# Altium schematic symbol library Chips.SchLib: 170 symbols (part 1 of 2)
Pins are listed as number, name and electrical type; pins without a type are passive.

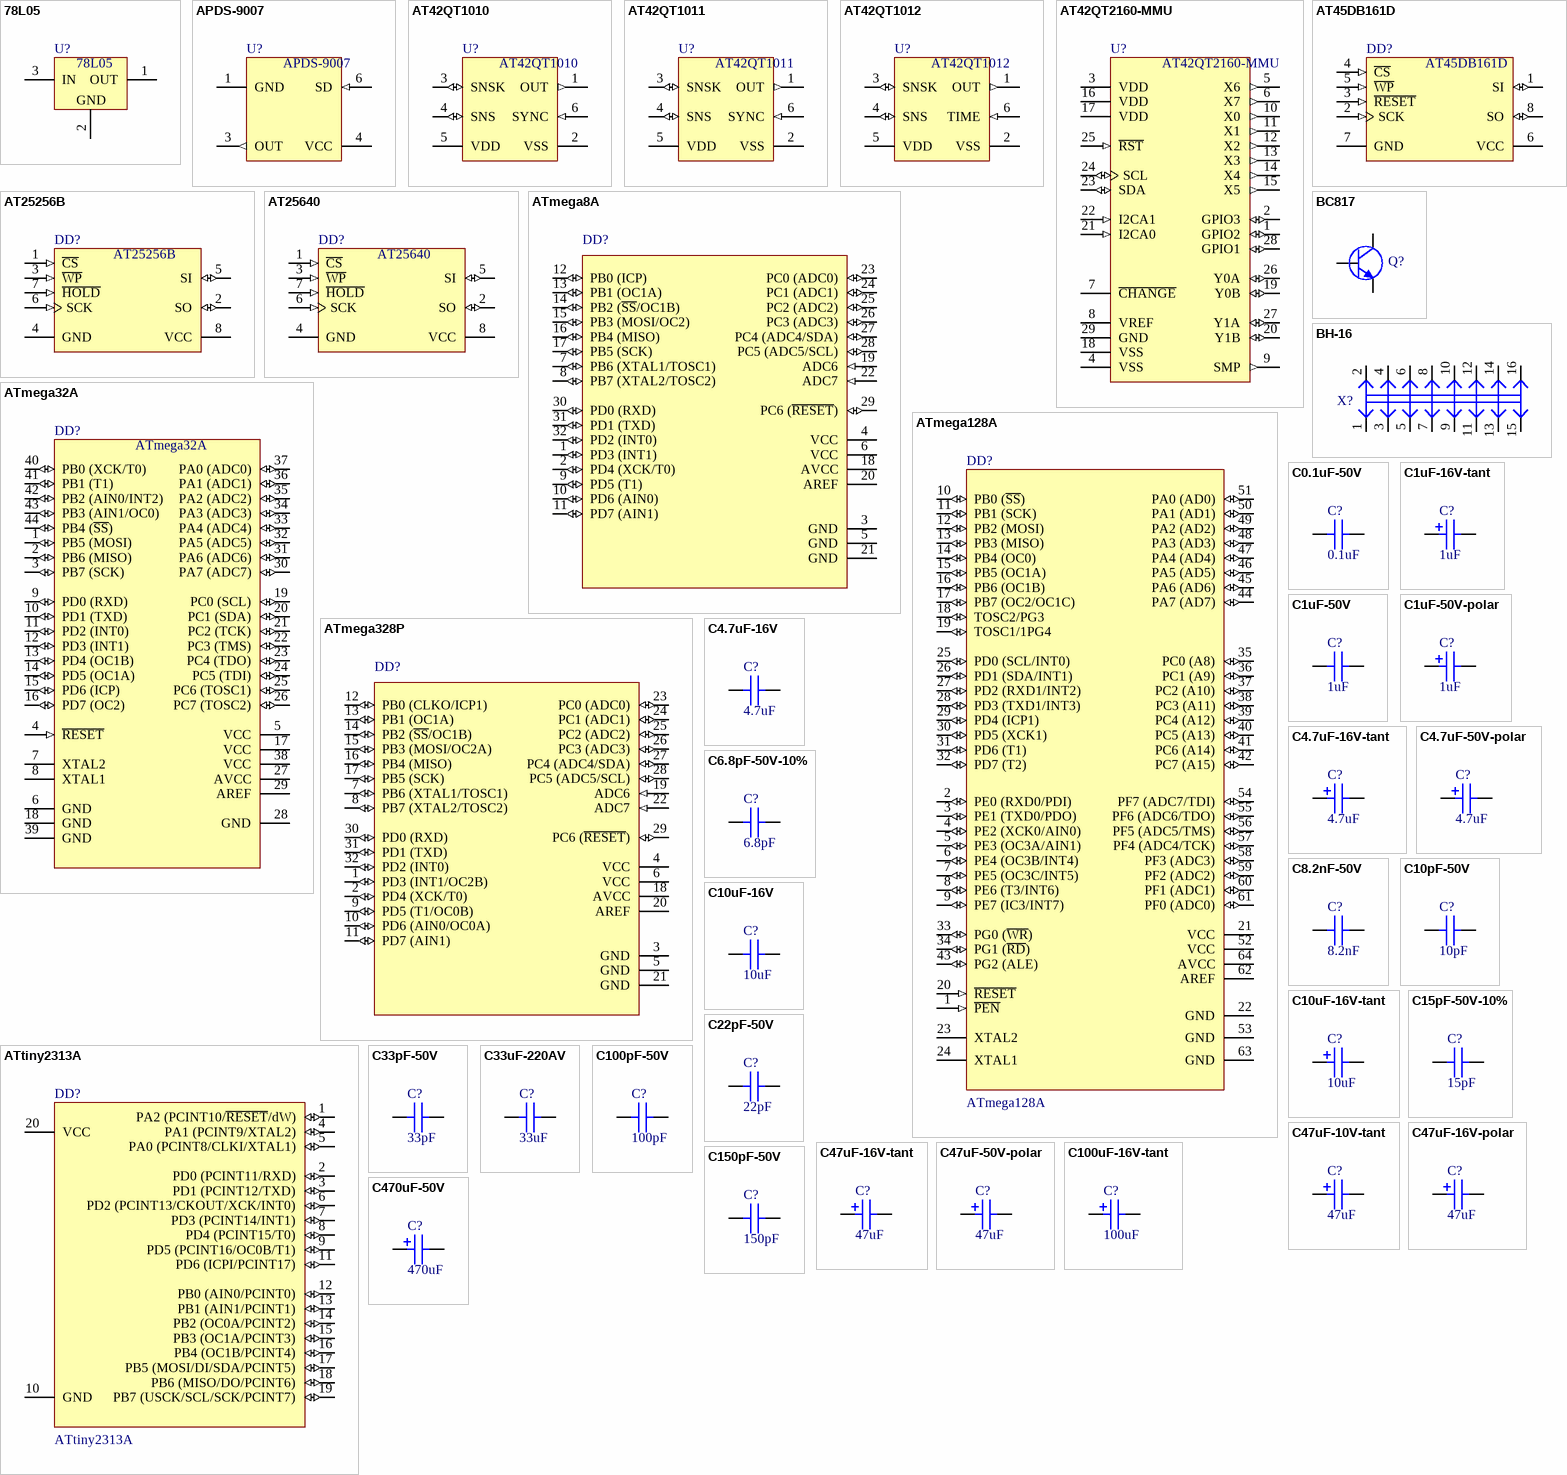
[diagram p0: symbols 78L05 to C470uF-50V]

## 78L05
designator U?
Positive Voltage Regulator; Value: 5V; Name: 78L05; Type: Стабилизатор
footprint TO92 (TO, Flat Index; 3 In-Line, Axial Leads; Body Dia. 4.8mm; Leads 0.51 x 0.51 mm (max))
pins: 1 OUT (power), 2 GND (power), 3 IN (power)

## APDS-9007
designator U?
Ambient Light Photo Sensor with Logarithmic Current Output; Name: APDS-9007; Type: Датчик освещения
footprint APDS-9007
footprint APDS-9007-HOLE (APDS-9007 throw hole)
pins: 1 GND (power), 3 OUT (out), 4 VCC (power), 6 SD (in)

## AT42QT1010
designator U?
One-channel Touch Sensor IC with Reset Timer, 6-pin SOT23; Name: AT42QT1010; Type: Драйвер сенсорной кнопки
footprint 6ST1_N (SOT23, 6-Leads, Body 2.9x1.6mm, Pitch 0.95mm, Lead Span 2.7mm, IPC Medium Density)
footprint 6ST1_L (SOT23, 6-Leads, Body 2.9x1.6mm, Pitch 0.95mm, Lead Span 2.7mm, IPC Medium Density)
pins: 1 OUT (out), 2 VSS (power), 3 SNSK (io), 4 SNS (io), 5 VDD (power), 6 SYNC (in)

## AT42QT1011
designator U?
One-channel Touch Sensor IC with no Reset Timer, 6-pin SOT23; Name: AT42QT1011; Type: Драйвер сенсорной кнопки
footprint 6ST1_N (SOT23, 6-Leads, Body 2.9x1.6mm, Pitch 0.95mm, Lead Span 2.7mm, IPC Medium Density)
footprint 6ST1_L (SOT23, 6-Leads, Body 2.9x1.6mm, Pitch 0.95mm, Lead Span 2.7mm, IPC Medium Density)
pins: 1 OUT (out), 2 VSS (power), 3 SNSK (io), 4 SNS (io), 5 VDD (power), 6 SYNC (in)

## AT42QT1012
designator U?
One-channel Toggle-mode Touch Sensor IC with Power Management Functions, 6-pin SOT23; Name: AT42QT1012; Type: Драйвер сенсорной кнопки
footprint 6ST1_N (SOT23, 6-Leads, Body 2.9x1.6mm, Pitch 0.95mm, Lead Span 2.7mm, IPC Medium Density)
footprint 6ST1_L (SOT23, 6-Leads, Body 2.9x1.6mm, Pitch 0.95mm, Lead Span 2.7mm, IPC Medium Density)
pins: 1 OUT (out), 2 VSS (power), 3 SNSK (io), 4 SNS (io), 5 VDD (power), 6 TIME (in)

## AT42QT2160-MMU
designator U?
QSlide 16-key QMatrix Sensor IC, 28-Pin VQFN; Name: AT42QT2160-MMU; Type: Драйвер сенсорной матрицы
footprint 28M1_N (QFN, 28-Leads, Body 4x4mm, Pitch 0.45mm, IPC Medium Density)
pins: 1 GPIO2 (io), 2 GPIO3 (io), 3 VDD (power), 4 VSS (power), 5 X6 (out), 6 X7 (out), 7 ~{CHANGE} (oc), 8 VREF (power), 9 SMP (out), 10 X0 (out), 11 X1 (out), 12 X2 (out), 13 X3 (out), 14 X4 (out), 15 X5 (out), 16 VDD (power), 17 VDD (power), 18 VSS (power), 19 Y0B (io), 20 Y1B (io), 21 I2CA0 (in), 22 I2CA1 (in), 23 SDA (io), 24 SCL (io), 25 ~{RST} (in), 26 Y0A (io), 27 Y1A (io), 28 GPIO1 (io), 29 GND (power)

## AT45DB161D
designator DD?
SPI Serial Flash 16M Memory; Name: AT45DB161D; Type: Память
footprint 8S2_N (8-Pin Small Outline Package 1.27 mm Pitch, IPC Medium Density)
pins: 1 SI (io), 2 SCK (in), 3 ~{RESET} (in), 4 ~{CS} (in), 5 ~{WP} (in), 6 VCC (power), 7 GND (power), 8 SO (io)

## AT25256B
designator DD?
SPI Serial EEPROM 256K Memory; Name: AT25256B; Type: Память
footprint 8S1_N (SOIC, 8-Leads, Body 4.9x3.9mm, Pitch 1.27mm, IPC Medium Density)
footprint 8S12_UNIV (8-Pin Small Outline Package 1.27 mm Pitch, IPC Medium Density)
footprint 8S2_N (8-Pin Small Outline Package 1.27 mm Pitch, IPC Medium Density)
pins: 1 ~{CS} (in), 2 SO (io), 3 ~{WP} (in), 4 GND (power), 5 SI (io), 6 SCK (in), 7 ~{HOLD} (in), 8 VCC (power)

## AT25640
designator DD?
SPI Serial EEPROM 64K Memory; Name: AT25640; Type: Память
footprint 8S1_N (SOIC, 8-Leads, Body 4.9x3.9mm, Pitch 1.27mm, IPC Medium Density)
footprint 8S12_UNIV (8-Pin Small Outline Package 1.27 mm Pitch, IPC Medium Density)
footprint 8S2_N (8-Pin Small Outline Package 1.27 mm Pitch, IPC Medium Density)
pins: 1 ~{CS} (in), 2 SO (io), 3 ~{WP} (in), 4 GND (power), 5 SI (io), 6 SCK (in), 7 ~{HOLD} (in), 8 VCC (power)

## ATmega8A
designator DD?  (value not drawn)
8-Bit AVR Microcontroller with 8K Bytes of In-System Programmable Flash Memory; Name: ATmega8A; Type: Микроконтроллер
footprint 32A_N (Thin QFP, 32-Leads, Body 7x7mm, Pitch 0.8mm, IPC Medium Density)
pins: 1 PD3 (INT1) (io), 2 PD4 (XCK/T0) (io), 3 GND (power), 4 VCC (power), 5 GND (power), 6 VCC (power), 7 PB6 (XTAL1/TOSC1) (io), 8 PB7 (XTAL2/TOSC2) (io), 9 PD5 (T1) (io), 10 PD6 (AIN0) (io), 11 PD7 (AIN1) (io), 12 PB0 (ICP) (io), 13 PB1 (OC1A) (io), 14 PB2 (~{SS}/OC1B) (io), 15 PB3 (MOSI/OC2) (io), 16 PB4 (MISO) (io), 17 PB5 (SCK) (io), 18 AVCC (power), 19 ADC6 (in), 20 AREF, 21 GND (power), 22 ADC7 (in), 23 PC0 (ADC0) (io), 24 PC1 (ADC1) (io), 25 PC2 (ADC2) (io), 26 PC3 (ADC3) (io), 27 PC4 (ADC4/SDA) (io), 28 PC5 (ADC5/SCL) (io), 29 PC6 (~{RESET}) (io), 30 PD0 (RXD) (io), 31 PD1 (TXD) (io), 32 PD2 (INT0) (io)

## ATmega32A
designator DD?
8-Bit AVR Microcontroller with 32K Bytes of In-System Programmable Flash Memory; Type: Микроконтроллер; Name: ATmega32A
footprint 44A_N (Thin QFP, 44-Leads, Body 10x10mm, Pitch 0.8mm, IPC Medium Density)
footprint 44A_L (Thin QFP, 44-Leads, Body 10x10mm, Pitch 0.8mm, IPC Medium Density)
pins: 1 PB5 (MOSI) (io), 2 PB6 (MISO) (io), 3 PB7 (SCK) (io), 4 ~{RESET} (in), 5 VCC (power), 6 GND (power), 7 XTAL2, 8 XTAL1, 9 PD0 (RXD) (io), 10 PD1 (TXD) (io), 11 PD2 (INT0) (io), 12 PD3 (INT1) (io), 13 PD4 (OC1B) (io), 14 PD5 (OC1A) (io), 15 PD6 (ICP) (io), 16 PD7 (OC2) (io), 17 VCC (power), 18 GND (power), 19 PC0 (SCL) (io), 20 PC1 (SDA) (io), 21 PC2 (TCK) (io), 22 PC3 (TMS) (io), 23 PC4 (TDO) (io), 24 PC5 (TDI) (io), 25 PC6 (TOSC1) (io), 26 PC7 (TOSC2) (io), 27 AVCC (power), 28 GND (power), 29 AREF, 30 PA7 (ADC7) (io), 31 PA6 (ADC6) (io), 32 PA5 (ADC5) (io), 33 PA4 (ADC4) (io), 34 PA3 (ADC3) (io), 35 PA2 (ADC2) (io), 36 PA1 (ADC1) (io), 37 PA0 (ADC0) (io), 38 VCC (power), 39 GND (power), 40 PB0 (XCK/T0) (io), 41 PB1 (T1) (io), 42 PB2 (AIN0/INT2) (io), 43 PB3 (AIN1/OC0) (io), 44 PB4 (~{SS}) (io)

## ATmega128A
designator DD?
8-Bit AVR Microcontroller with 128K Bytes of In-System Programmable Flash Memory; Name: ATmega128A; Type: Микроконтроллер
footprint 64A_N (Thin QFP, 64-Leads, Body 14x14mm, Pitch 0.8mm, IPC Medium Density)
pins: 1 ~{PEN} (in), 2 PE0 (RXD0/PDI) (io), 3 PE1 (TXD0/PDO) (io), 4 PE2 (XCK0/AIN0) (io), 5 PE3 (OC3A/AIN1) (io), 6 PE4 (OC3B/INT4) (io), 7 PE5 (OC3C/INT5) (io), 8 PE6 (T3/INT6) (io), 9 PE7 (IC3/INT7) (io), 10 PB0 (~{SS}) (io), 11 PB1 (SCK) (io), 12 PB2 (MOSI) (io), 13 PB3 (MISO) (io), 14 PB4 (OC0) (io), 15 PB5 (OC1A) (io), 16 PB6 (OC1B) (io), 17 PB7 (OC2/OC1C) (io), 18 TOSC2/PG3 (io), 19 TOSC1/1PG4 (io), 20 ~{RESET} (in), 21 VCC (power), 22 GND (power), 23 XTAL2, 24 XTAL1, 25 PD0 (SCL/INT0) (io), 26 PD1 (SDA/INT1) (io), 27 PD2 (RXD1/INT2) (io), 28 PD3 (TXD1/INT3) (io), 29 PD4 (ICP1) (io), 30 PD5 (XCK1) (io), 31 PD6 (T1) (io), 32 PD7 (T2) (io), 33 PG0 (~{WR}) (io), 34 PG1 (~{RD}) (io), 35 PC0 (A8) (io), 36 PC1 (A9) (io), 37 PC2 (A10) (io), 38 PC3 (A11) (io), 39 PC4 (A12) (io), 40 PC5 (A13) (io), 41 PC6 (A14) (io), 42 PC7 (A15) (io), 43 PG2 (ALE) (io), 44 PA7 (AD7) (io), 45 PA6 (AD6) (io), 46 PA5 (AD5) (io), 47 PA4 (AD4) (io), 48 PA3 (AD3) (io), 49 PA2 (AD2) (io), 50 PA1 (AD1) (io), 51 PA0 (AD0) (io), 52 VCC (power), 53 GND (power), 54 PF7 (ADC7/TDI) (io), 55 PF6 (ADC6/TDO) (io), 56 PF5 (ADC5/TMS) (io), 57 PF4 (ADC4/TCK) (io), 58 PF3 (ADC3) (io), 59 PF2 (ADC2) (io), 60 PF1 (ADC1) (io), 61 PF0 (ADC0) (io), 62 AREF, 63 GND (power), 64 AVCC (power)

## ATmega328P
designator DD?  (value not drawn)
8-Bit AVR Microcontroller with 32K Bytes of In-System Programmable Flash Memory; Name: ATmega328P; Type: Микроконтроллер
footprint 32A_N (Thin QFP, 32-Leads, Body 7x7mm, Pitch 0.8mm, IPC Medium Density)
pins: 1 PD3 (INT1/OC2B) (io), 2 PD4 (XCK/T0) (io), 3 GND (power), 4 VCC (power), 5 GND (power), 6 VCC (power), 7 PB6 (XTAL1/TOSC1) (io), 8 PB7 (XTAL2/TOSC2) (io), 9 PD5 (T1/OC0B) (io), 10 PD6 (AIN0/OC0A) (io), 11 PD7 (AIN1) (io), 12 PB0 (CLKO/ICP1) (io), 13 PB1 (OC1A) (io), 14 PB2 (~{SS}/OC1B) (io), 15 PB3 (MOSI/OC2A) (io), 16 PB4 (MISO) (io), 17 PB5 (SCK) (io), 18 AVCC (power), 19 ADC6 (in), 20 AREF, 21 GND (power), 22 ADC7 (in), 23 PC0 (ADC0) (io), 24 PC1 (ADC1) (io), 25 PC2 (ADC2) (io), 26 PC3 (ADC3) (io), 27 PC4 (ADC4/SDA) (io), 28 PC5 (ADC5/SCL) (io), 29 PC6 (~{RESET}) (io), 30 PD0 (RXD) (io), 31 PD1 (TXD) (io), 32 PD2 (INT0) (io)

## ATtiny2313A
designator DD?
8-Bit AVR Microcontroller with 2K Bytes of In-System Programmable Flash Memory; Name: ATtiny2313A; Type: Микроконтроллер
footprint 20S2_N (SOIC, 20-Leads, Body 12.8x7.5mm, Pitch 1.27mm, IPC Medium Density)
pins: 1 PA2 (PCINT10/~{RESET}/dW) (io), 2 PD0 (PCINT11/RXD) (io), 3 PD1 (PCINT12/TXD) (io), 4 PA1 (PCINT9/XTAL2) (io), 5 PA0 (PCINT8/CLKI/XTAL1) (io), 6 PD2 (PCINT13/CKOUT/XCK/INT0) (io), 7 PD3 (PCINT14/INT1) (io), 8 PD4 (PCINT15/T0) (io), 9 PD5 (PCINT16/OC0B/T1) (io), 10 GND (power), 11 PD6 (ICPI/PCINT17) (io), 12 PB0 (AIN0/PCINT0) (io), 13 PB1 (AIN1/PCINT1) (io), 14 PB2 (OC0A/PCINT2) (io), 15 PB3 (OC1A/PCINT3) (io), 16 PB4 (OC1B/PCINT4) (io), 17 PB5 (MOSI/DI/SDA/PCINT5) (io), 18 PB6 (MISO/DO/PCINT6) (io), 19 PB7 (USCK/SCL/SCK/PCINT7) (io), 20 VCC (power)

## BC817
designator Q?  (value not drawn)
NPN General-purpose Transistor; Type: Транзистор NPN; Name: BC817
footprint SOT23_N (SOT23, 3-Leads, Body 2.9x1.3mm, Pitch 0.95mm, Lead Span 2.3mm, IPC Medium Density)
pins: 1 B, 2 E, 3 C

## BH-16
designator X?  (value not drawn)
Name: BH-16; Type: Разъем
footprint BH-16 (BH-16; Pitch 2.54)
pins: 1, 2, 3, 4, 5, 6, 7, 8, 9, 10, 11, 12, 13, 14, 15, 16

## C0.1uF-50V
designator C?  value 0.1uF  (hidden comment: C0.1uF-50V)
Type: Конденсатор керамический; Voltage: 50V; Name: C0.1uF-50V
footprint C0603 (Chip Capacitor, Body 1.6x0.8mm, IPC Medium Density)
footprint C0805 (Chip Capacitor, Body 2.0x1.3mm, IPC Medium Density)
footprint C1206 (Chip Capacitor, Body 3.2x1.6mm, IPC Medium Density)
pins: 1, 2

## C1uF-16V-tant
designator C?  value 1uF  (hidden comment: C1uF-16V-tant)
Type: Конденсатор танталовый; Voltage: 16V; Name: C1uF-16V-tant
footprint TC1206 (Capacitor, SM Tantalum; Body 3.2 x 1.6 mm (LxW typ))
footprint TC1411 (Capacitor, SM Tantalum; Body 3.5 x 2.8 mm (LxW typ))
footprint TC2412 (Capacitor, SM Tantalum; Body 6.0 x 3.2 mm (LxW typ))
footprint TC2917 (Capacitor, SM Tantalum; Body 7.3 x 4.3 mm (LxW typ))
footprint TC2924 (Capacitor, SM Tantalum; Body 7.3 x 6.0 mm (LxW typ))
pins: 1, 2
1 alternate drawing of the same symbol

## C1uF-50V
designator C?  value 1uF  (hidden comment: C1uF-50V)
Type: Конденсатор керамический; Voltage: 50V; Name: C1uF-50V
footprint C0603 (Chip Capacitor, Body 1.6x0.8mm, IPC Medium Density)
footprint C0805 (Chip Capacitor, Body 2.0x1.3mm, IPC Medium Density)
footprint C1206 (Chip Capacitor, Body 3.2x1.6mm, IPC Medium Density)
pins: 1, 2

## C1uF-50V-polar
designator C?  value 1uF  (hidden comment: C1uF-50V-polar)
Type: Конденсатор полярный; Voltage: 50V; Name: C1uF-50V-polar
footprint CAPPR2.0-D5.0 (Capacitor, Electrolytic, Radial; Body 5 x 7 mm (Dia.xH typ); Pin Spacing 2 mm (typ))
footprint CAPPR2.5-D6.3 (Capacitor, Electrolytic, Radial; Body 6.3 x 11.5 mm (Dia.xH typ); Pin Spacing 2.5 mm (typ))
footprint CAPPR3.5-D8.0 (Capacitor, Electrolytic, Radial; Body 8 x 11.5 mm (Dia.xH typ); Pin Spacing 3.5 mm (typ))
footprint CAPPR5.0-D12.5 (Capacitor, Electrolytic, Radial; Body 12.5 x 25.0 mm (Dia.xH typ); Pin Spacing 5.0 mm (typ))
pins: 1, 2
1 alternate drawing of the same symbol

## C4.7uF-16V
designator C?  value 4.7uF  (hidden comment: C4.7uF-16V)
Type: Конденсатор керамический; Voltage: 16V; Name: C4.7uF-16V
footprint C0603 (Chip Capacitor, Body 1.6x0.8mm, IPC Medium Density)
footprint C0805 (Chip Capacitor, Body 2.0x1.3mm, IPC Medium Density)
footprint C1206 (Chip Capacitor, Body 3.2x1.6mm, IPC Medium Density)
pins: 1, 2

## C4.7uF-16V-tant
designator C?  value 4.7uF  (hidden comment: C4.7uF-16V-tant)
Type: Конденсатор танталовый; Voltage: 16V; Name: C4.7uF-16V-tant
footprint TC1206 (Capacitor, SM Tantalum; Body 3.2 x 1.6 mm (LxW typ))
footprint TC1411 (Capacitor, SM Tantalum; Body 3.5 x 2.8 mm (LxW typ))
footprint TC2412 (Capacitor, SM Tantalum; Body 6.0 x 3.2 mm (LxW typ))
footprint TC2917 (Capacitor, SM Tantalum; Body 7.3 x 4.3 mm (LxW typ))
footprint TC2924 (Capacitor, SM Tantalum; Body 7.3 x 6.0 mm (LxW typ))
pins: 1, 2
1 alternate drawing of the same symbol

## C4.7uF-50V-polar
designator C?  value 4.7uF  (hidden comment: C4.7uF-50V-polar)
Type: Конденсатор полярный; Voltage: 50V; Name: C4.7uF-50V-polar
footprint CAPPR2.0-D5.0 (Capacitor, Electrolytic, Radial; Body 5 x 7 mm (Dia.xH typ); Pin Spacing 2 mm (typ))
footprint CAPPR2.5-D6.3 (Capacitor, Electrolytic, Radial; Body 6.3 x 11.5 mm (Dia.xH typ); Pin Spacing 2.5 mm (typ))
footprint CAPPR3.5-D8.0 (Capacitor, Electrolytic, Radial; Body 8 x 11.5 mm (Dia.xH typ); Pin Spacing 3.5 mm (typ))
footprint CAPPR5.0-D12.5 (Capacitor, Electrolytic, Radial; Body 12.5 x 25.0 mm (Dia.xH typ); Pin Spacing 5.0 mm (typ))
pins: 1, 2
1 alternate drawing of the same symbol

## C6.8pF-50V-10%
designator C?  value 6.8pF  (hidden comment: C6.8pF-50V-10%)
Type: Конденсатор керамический; Voltage: 50V; Accuracy: 10%; Name: C6.8pF-50V-10%
footprint C0603 (Chip Capacitor, Body 1.6x0.8mm, IPC Medium Density)
footprint C0805 (Chip Capacitor, Body 2.0x1.3mm, IPC Medium Density)
footprint C1206 (Chip Capacitor, Body 3.2x1.6mm, IPC Medium Density)
pins: 1, 2

## C8.2nF-50V
designator C?  value 8.2nF  (hidden comment: C8.2nF-50V)
Type: Конденсатор керамический; Voltage: 50V; Name: C8.2nF-50V
footprint C0603 (Chip Capacitor, Body 1.6x0.8mm, IPC Medium Density)
footprint C0805 (Chip Capacitor, Body 2.0x1.3mm, IPC Medium Density)
footprint C1206 (Chip Capacitor, Body 3.2x1.6mm, IPC Medium Density)
pins: 1, 2

## C10pF-50V
designator C?  value 10pF  (hidden comment: C10pF-50V)
Type: Конденсатор керамический; Voltage: 50V; Name: C10pF-50V
footprint C0603 (Chip Capacitor, Body 1.6x0.8mm, IPC Medium Density)
footprint C0805 (Chip Capacitor, Body 2.0x1.3mm, IPC Medium Density)
footprint C1206 (Chip Capacitor, Body 3.2x1.6mm, IPC Medium Density)
pins: 1, 2

## C10uF-16V
designator C?  value 10uF  (hidden comment: C10uF-16V)
Type: Конденсатор керамический; Voltage: 16V; Name: C10uF-16V
footprint C0603 (Chip Capacitor, Body 1.6x0.8mm, IPC Medium Density)
footprint C0805 (Chip Capacitor, Body 2.0x1.3mm, IPC Medium Density)
footprint C1206 (Chip Capacitor, Body 3.2x1.6mm, IPC Medium Density)
pins: 1, 2

## C10uF-16V-tant
designator C?  value 10uF  (hidden comment: C10uF-16V-tant)
Type: Конденсатор танталовый; Voltage: 16V; Name: C10uF-16V-tant
footprint TC1206 (Capacitor, SM Tantalum; Body 3.2 x 1.6 mm (LxW typ))
footprint TC1411 (Capacitor, SM Tantalum; Body 3.5 x 2.8 mm (LxW typ))
footprint TC2412 (Capacitor, SM Tantalum; Body 6.0 x 3.2 mm (LxW typ))
footprint TC2917 (Capacitor, SM Tantalum; Body 7.3 x 4.3 mm (LxW typ))
footprint TC2924 (Capacitor, SM Tantalum; Body 7.3 x 6.0 mm (LxW typ))
pins: 1, 2
1 alternate drawing of the same symbol

## C15pF-50V-10%
designator C?  value 15pF  (hidden comment: C15pF-50V-10%)
Type: Конденсатор керамический; Voltage: 50V; Accuracy: 10%; Name: C15pF-50V-10%
footprint C0603 (Chip Capacitor, Body 1.6x0.8mm, IPC Medium Density)
footprint C0805 (Chip Capacitor, Body 2.0x1.3mm, IPC Medium Density)
footprint C1206 (Chip Capacitor, Body 3.2x1.6mm, IPC Medium Density)
pins: 1, 2

## C22pF-50V
designator C?  value 22pF  (hidden comment: C22pF-50V)
Type: Конденсатор керамический; Voltage: 50V; Name: C22pF-50V
footprint C0603 (Chip Capacitor, Body 1.6x0.8mm, IPC Medium Density)
footprint C0805 (Chip Capacitor, Body 2.0x1.3mm, IPC Medium Density)
footprint C1206 (Chip Capacitor, Body 3.2x1.6mm, IPC Medium Density)
pins: 1, 2

## C33pF-50V
designator C?  value 33pF  (hidden comment: C33pF-50V)
Type: Конденсатор керамический; Voltage: 50V; Name: C33pF-50V
footprint C0603 (Chip Capacitor, Body 1.6x0.8mm, IPC Medium Density)
footprint C0805 (Chip Capacitor, Body 2.0x1.3mm, IPC Medium Density)
footprint C1206 (Chip Capacitor, Body 3.2x1.6mm, IPC Medium Density)
pins: 1, 2

## C33uF-220AV
designator C?  value 33uF  (hidden comment: C33uF-220AV)
Type: Конденсатор пленочный; Voltage: 220AV; Name: C33uF-220AV
footprint CAPR14.50-17.80x10 (Capacitor, Ceramic, Thru-Hole, Dipped Radial; Body 17.80x10 mm (WxT) Pin Spacing 14.50 mm (typ))
pins: 1, 2

## C47uF-10V-tant
designator C?  value 47uF  (hidden comment: C47uF-10V-tant)
Type: Конденсатор танталовый; Voltage: 10V; Name: C47uF-10V-tant
footprint TC1206 (Capacitor, SM Tantalum; Body 3.2 x 1.6 mm (LxW typ))
footprint TC1411 (Capacitor, SM Tantalum; Body 3.5 x 2.8 mm (LxW typ))
footprint TC2412 (Capacitor, SM Tantalum; Body 6.0 x 3.2 mm (LxW typ))
footprint TC2917 (Capacitor, SM Tantalum; Body 7.3 x 4.3 mm (LxW typ))
footprint TC2924 (Capacitor, SM Tantalum; Body 7.3 x 6.0 mm (LxW typ))
pins: 1, 2
1 alternate drawing of the same symbol

## C47uF-16V-polar
designator C?  value 47uF  (hidden comment: C47uF-16V-polar)
Type: Конденсатор полярный; Voltage: 16V; Name: C47uF-16V-polar
footprint CAPPR2.0-D5.0 (Capacitor, Electrolytic, Radial; Body 5 x 7 mm (Dia.xH typ); Pin Spacing 2 mm (typ))
footprint CAPPR2.5-D6.3 (Capacitor, Electrolytic, Radial; Body 6.3 x 11.5 mm (Dia.xH typ); Pin Spacing 2.5 mm (typ))
footprint CAPPR3.5-D8.0 (Capacitor, Electrolytic, Radial; Body 8 x 11.5 mm (Dia.xH typ); Pin Spacing 3.5 mm (typ))
footprint CAPPR5.0-D12.5 (Capacitor, Electrolytic, Radial; Body 12.5 x 25.0 mm (Dia.xH typ); Pin Spacing 5.0 mm (typ))
pins: 1, 2
1 alternate drawing of the same symbol

## C47uF-16V-tant
designator C?  value 47uF  (hidden comment: C47uF-16V-tant)
Type: Конденсатор танталовый; Voltage: 16V; Name: C47uF-16V-tant
footprint TC1206 (Capacitor, SM Tantalum; Body 3.2 x 1.6 mm (LxW typ))
footprint TC1411 (Capacitor, SM Tantalum; Body 3.5 x 2.8 mm (LxW typ))
footprint TC2412 (Capacitor, SM Tantalum; Body 6.0 x 3.2 mm (LxW typ))
footprint TC2917 (Capacitor, SM Tantalum; Body 7.3 x 4.3 mm (LxW typ))
footprint TC2924 (Capacitor, SM Tantalum; Body 7.3 x 6.0 mm (LxW typ))
pins: 1, 2
1 alternate drawing of the same symbol

## C47uF-50V-polar
designator C?  value 47uF  (hidden comment: C47uF-50V-polar)
Type: Конденсатор полярный; Voltage: 50V; Name: C47uF-50V-polar
footprint CAPPR2.0-D5.0 (Capacitor, Electrolytic, Radial; Body 5 x 7 mm (Dia.xH typ); Pin Spacing 2 mm (typ))
footprint CAPPR2.5-D6.3 (Capacitor, Electrolytic, Radial; Body 6.3 x 11.5 mm (Dia.xH typ); Pin Spacing 2.5 mm (typ))
footprint CAPPR3.5-D8.0 (Capacitor, Electrolytic, Radial; Body 8 x 11.5 mm (Dia.xH typ); Pin Spacing 3.5 mm (typ))
footprint CAPPR5.0-D12.5 (Capacitor, Electrolytic, Radial; Body 12.5 x 25.0 mm (Dia.xH typ); Pin Spacing 5.0 mm (typ))
pins: 1, 2
1 alternate drawing of the same symbol

## C100pF-50V
designator C?  value 100pF  (hidden comment: C100pF-50V)
Type: Конденсатор керамический; Voltage: 50V; Name: C100pF-50V
footprint C0603 (Chip Capacitor, Body 1.6x0.8mm, IPC Medium Density)
footprint C0805 (Chip Capacitor, Body 2.0x1.3mm, IPC Medium Density)
footprint C1206 (Chip Capacitor, Body 3.2x1.6mm, IPC Medium Density)
pins: 1, 2

## C100uF-16V-tant
designator C?  value 100uF  (hidden comment: C100uF-16V-tant)
Type: Конденсатор танталовый; Voltage: 16V; Name: C100uF-16V-tant
footprint TC1206 (Capacitor, SM Tantalum; Body 3.2 x 1.6 mm (LxW typ))
footprint TC1411 (Capacitor, SM Tantalum; Body 3.5 x 2.8 mm (LxW typ))
footprint TC2412 (Capacitor, SM Tantalum; Body 6.0 x 3.2 mm (LxW typ))
footprint TC2917 (Capacitor, SM Tantalum; Body 7.3 x 4.3 mm (LxW typ))
footprint TC2924 (Capacitor, SM Tantalum; Body 7.3 x 6.0 mm (LxW typ))
pins: 1, 2
1 alternate drawing of the same symbol

## C150pF-50V
designator C?  value 150pF  (hidden comment: C150pF-50V)
Type: Конденсатор керамический; Voltage: 50V; Name: C150pF-50V
footprint C0603 (Chip Capacitor, Body 1.6x0.8mm, IPC Medium Density)
footprint C0805 (Chip Capacitor, Body 2.0x1.3mm, IPC Medium Density)
footprint C1206 (Chip Capacitor, Body 3.2x1.6mm, IPC Medium Density)
pins: 1, 2

## C470uF-50V
designator C?  value 470uF  (hidden comment: C470uF-50V)
Type: Конденсатор полярный; Voltage: 50V; Name: C470uF-50V
footprint CAPPR2.0-D5.0 (Capacitor, Electrolytic, Radial; Body 5 x 7 mm (Dia.xH typ); Pin Spacing 2 mm (typ))
footprint CAPPR2.5-D6.3 (Capacitor, Electrolytic, Radial; Body 6.3 x 11.5 mm (Dia.xH typ); Pin Spacing 2.5 mm (typ))
footprint CAPPR3.5-D8.0 (Capacitor, Electrolytic, Radial; Body 8 x 11.5 mm (Dia.xH typ); Pin Spacing 3.5 mm (typ))
footprint CAPPR5.0-D12.5 (Capacitor, Electrolytic, Radial; Body 12.5 x 25.0 mm (Dia.xH typ); Pin Spacing 5.0 mm (typ))
pins: 1, 2
1 alternate drawing of the same symbol

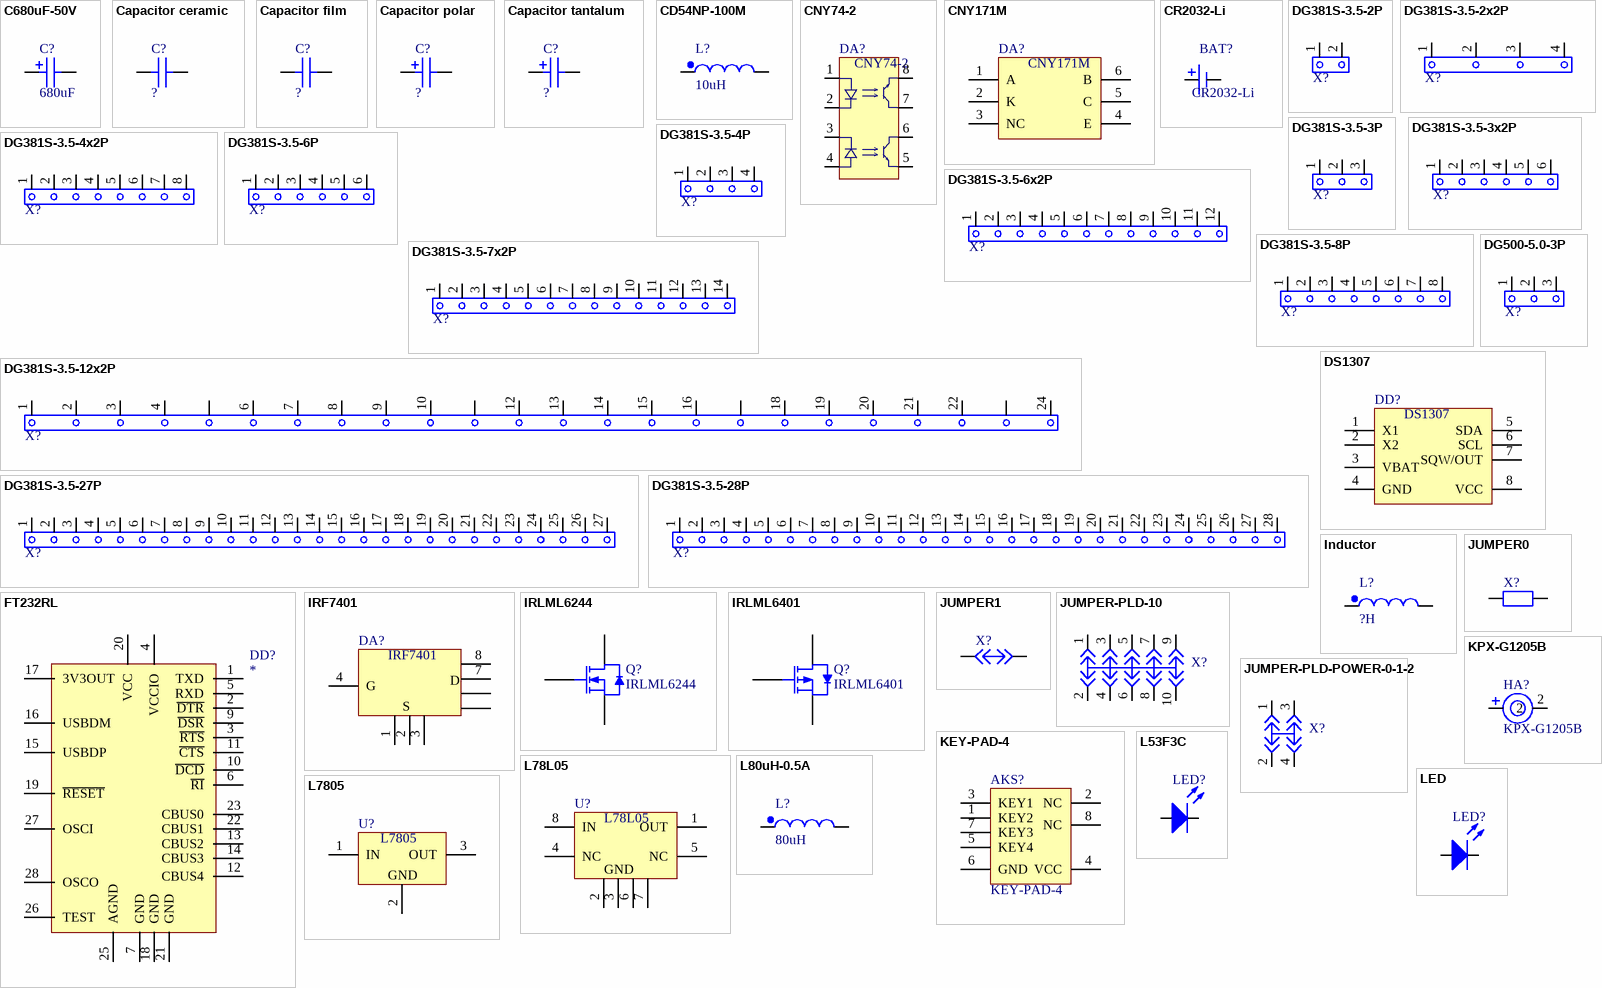
[diagram p1: symbols C680uF-50V to LED]

## C680uF-50V
designator C?  value 680uF  (hidden comment: C680uF-50V)
Type: Конденсатор полярный; Voltage: 50V; Name: C680uF-50V
footprint CAPPR2.0-D5.0 (Capacitor, Electrolytic, Radial; Body 5 x 7 mm (Dia.xH typ); Pin Spacing 2 mm (typ))
footprint CAPPR2.5-D6.3 (Capacitor, Electrolytic, Radial; Body 6.3 x 11.5 mm (Dia.xH typ); Pin Spacing 2.5 mm (typ))
footprint CAPPR3.5-D8.0 (Capacitor, Electrolytic, Radial; Body 8 x 11.5 mm (Dia.xH typ); Pin Spacing 3.5 mm (typ))
footprint CAPPR5.0-D12.5 (Capacitor, Electrolytic, Radial; Body 12.5 x 25.0 mm (Dia.xH typ); Pin Spacing 5.0 mm (typ))
pins: 1, 2
1 alternate drawing of the same symbol

## Capacitor ceramic
designator C?, comment C?-?V  (value not drawn)
Capacitor ceramic; Type: Конденсатор керамический; Voltage: ?V; Name: C?-?V; Value: ?
footprint C0603 (Chip Capacitor, Body 1.6x0.8mm, IPC Medium Density)
footprint C0805 (Chip Capacitor, Body 2.0x1.3mm, IPC Medium Density)
footprint C1206 (Chip Capacitor, Body 3.2x1.6mm, IPC Medium Density)
pins: 1, 2

## Capacitor film
designator C?, comment C?-?V  (value not drawn)
Capacitor film; Type: Конденсатор пленочный; Voltage: ?V; Name: C?-?V; Value: ?
footprint CAPR14.50-17.80x10 (Capacitor, Ceramic, Thru-Hole, Dipped Radial; Body 17.80x10 mm (WxT) Pin Spacing 14.50 mm (typ))
pins: 1, 2

## Capacitor polar
designator C?, comment C?-?V-polar  (value not drawn)
Capacitor polar; Type: Конденсатор полярный; Voltage: ?V; Name: C?-?V-polar; Value: ?
footprint CAPPR2.0-D5.0 (Capacitor, Electrolytic, Radial; Body 5 x 7 mm (Dia.xH typ); Pin Spacing 2 mm (typ))
footprint CAPPR2.5-D6.3 (Capacitor, Electrolytic, Radial; Body 6.3 x 11.5 mm (Dia.xH typ); Pin Spacing 2.5 mm (typ))
footprint CAPPR3.5-D8.0 (Capacitor, Electrolytic, Radial; Body 8 x 11.5 mm (Dia.xH typ); Pin Spacing 3.5 mm (typ))
footprint CAPPR5.0-D12.5 (Capacitor, Electrolytic, Radial; Body 12.5 x 25.0 mm (Dia.xH typ); Pin Spacing 5.0 mm (typ))
pins: 1, 2
1 alternate drawing of the same symbol

## Capacitor tantalum
designator C?, comment C?-?V-tant  (value not drawn)
Capacitor tantalum; Type: Конденсатор танталовый; Voltage: ?V; Name: C?-?V-tant; Value: ?
footprint TC1206 (Capacitor, SM Tantalum; Body 3.2 x 1.6 mm (LxW typ))
footprint TC1411 (Capacitor, SM Tantalum; Body 3.5 x 2.8 mm (LxW typ))
footprint TC2412 (Capacitor, SM Tantalum; Body 6.0 x 3.2 mm (LxW typ))
pins: 1, 2
1 alternate drawing of the same symbol

## CD54NP-100M
designator L?, comment value 10uH  (hidden comment: CD54)
Inductor with Winding Polarity Marking; Current: 1.44A; Type: Дроссель; Name: CD54
footprint CD54 (Magnetically unshielded inductor CD54)
footprint CD54-CDRH4D (Magnetically inductor - multipurpose footprint (CD54, CDRH4D))
pins: 1, 2

## CNY74-2
designator DA?
Name: CNY74-2; Type: Оптопара
footprint DIP-8 (DIP; 8 Leads; Row Spacing 7.62 mm; Pitch 2.54 mm)
pins: 1 A, 2 K, 3 K, 4 A, 5 E, 6 C, 7 C, 8 E

## CNY171M
designator DA?
Phototransistor Optocouplers; Name: CNY171M; Type: Оптопара
footprint DIP-6
pins: 1 A, 2 K, 3 NC, 4 E, 5 C, 6 B

## CR2032-Li
designator BAT?
Battery Lithium - CR2032; Voltage: 3V; Name: CR2032-Li; Type: Батарейка литиевая
footprint BH820 (Battery holder - CR2032)
pins: 1 (power), 2 (power)

## DG381S-3.5-2P
designator X?  (value not drawn)
PinNum: 2; Type: Терминальный блок; Name: DG381S-3.5-2P
footprint DG381S-3.5-2P (Terminal block; Step 3.5)
pins: 1, 2

## DG381S-3.5-2x2P
designator X?  (value not drawn)
PinNum: 4; Type: Терминальный блок; Name: DG381S-3.5-2x2P
footprint DG381S-3.5-2x2P (Terminal block; Step 3.5)
pins: 1, 2, 3, 4

## DG381S-3.5-3P
designator X?  (value not drawn)
PinNum: 3; Type: Терминальный блок; Name: DG381S-3.5-3P
footprint DG381S-3.5-3P (Terminal block; Step 3.5)
pins: 1, 2, 3

## DG381S-3.5-3x2P
designator X?  (value not drawn)
PinNum: 6; Type: Терминальный блок; Name: DG381S-3.5-3x2P
footprint DG381S-3.5-3x2P (Terminal block; Step 3.5)
pins: 1, 2, 3, 4, 5, 6

## DG381S-3.5-4P
designator X?  (value not drawn)
PinNum: 4; Type: Терминальный блок; Name: DG381S-3.5-4P
footprint DG381S-3.5-4P (Terminal block; Step 3.5)
pins: 1, 2, 3, 4

## DG381S-3.5-4x2P
designator X?  (value not drawn)
PinNum: 8; Type: Терминальный блок; Name: DG381S-3.5-4x2P
footprint DG381S-3.5-4x2P (Terminal block; Step 3.5)
pins: 1, 2, 3, 4, 5, 6, 7, 8

## DG381S-3.5-6P
designator X?  (value not drawn)
PinNum: 6; Type: Терминальный блок; Name: DG381S-3.5-6P
footprint DG381S-3.5-6P (Terminal block; Step 3.5)
pins: 1, 2, 3, 4, 5, 6

## DG381S-3.5-6x2P
designator X?  (value not drawn)
PinNum: 12; Type: Терминальный блок; Name: DG381S-3.5-6x2P
footprint DG381S-3.5-6x2P (Terminal block; Step 3.5)
pins: 1, 2, 3, 4, 5, 6, 7, 8, 9, 10, 11, 12

## DG381S-3.5-7x2P
designator X?  (value not drawn)
PinNum: 14; Type: Терминальный блок; Name: DG381S-3.5-7x2P
footprint DG381S-3.5-7x2P (Terminal block; Step 3.5)
pins: 1, 2, 3, 4, 5, 6, 7, 8, 9, 10, 11, 12, 13, 14

## DG381S-3.5-8P
designator X?  (value not drawn)
PinNum: 8; Type: Терминальный блок; Name: DG381S-3.5-8P
footprint DG381S-3.5-8P (Terminal block; Step 3.5)
pins: 1, 2, 3, 4, 5, 6, 7, 8

## DG381S-3.5-12x2P
designator X?  (value not drawn)
PinNum: 24; Type: Терминальный блок; Name: DG381S-3.5-12x2P
footprint DG381S-3.5-12x2P (Terminal block; Step 3.5)
pins: 1, 2, 3, 4, 5, 6, 7, 8, 9, 10, 11, 12, 13, 14, 15, 16, 17, 18, 19, 20, 21, 22, 23, 24

## DG381S-3.5-27P
designator X?  (value not drawn)
PinNum: 27; Type: Терминальный блок; Name: DG381S-3.5-27P
footprint DG381S-3.5-27P (Terminal block; Step 3.5)
pins: 1, 2, 3, 4, 5, 6, 7, 8, 9, 10, 11, 12, 13, 14, 15, 16, 17, 18, 19, 20, 21, 22, 23, 24, 25, 26, 27

## DG381S-3.5-28P
designator X?  (value not drawn)
PinNum: 28; Type: Терминальный блок; Name: DG381S-3.5-28P
footprint DG381S-3.5-28P (Terminal block; Step 3.5)
pins: 1, 2, 3, 4, 5, 6, 7, 8, 9, 10, 11, 12, 13, 14, 15, 16, 17, 18, 19, 20, 21, 22, 23, 24, 25, 26, 27, 28

## DG500-5.0-3P
designator X?  (value not drawn)
PinNum: 3; Type: Терминальный блок; Name: DG500-5.0-3P
footprint DG500-5.0-3P (Terminal block; Step 3.5)
pins: 1, 2, 3

## DS1307
designator DD?
Real-time clock; Name: DS1307; Type: Часы реального времени
footprint 8S1_N (SOIC, 8-Leads, Body 4.9x3.9mm, Pitch 1.27mm, IPC Medium Density)
pins: 1 X1, 2 X2, 3 VBAT (power), 4 GND (power), 5 SDA, 6 SCL, 7 SQW/OUT, 8 VCC (power)

## FT232RL
designator DD?
FT232R USB UART; Name: FT232RL; Type: USB драйвер
footprint SSOP-28
pins: 1 TXD, 2 ~{DTR}, 3 ~{RTS}, 4 VCCIO, 5 RXD, 6 ~{RI}, 7 GND, 8 NC hidden, 9 ~{DSR}, 10 ~{DCD}, 11 ~{CTS}, 12 CBUS4, 13 CBUS2, 14 CBUS3, 15 USBDP, 16 USBDM, 17 3V3OUT, 18 GND, 19 ~{RESET}, 20 VCC, 21 GND, 22 CBUS1, 23 CBUS0, 24 NC hidden, 25 AGND, 26 TEST, 27 OSCI, 28 OSCO
2 alternate drawings of the same symbol

## Inductor
designator L?, comment value ?H  (hidden comment: L?H-?A)
Inductor with Winding Polarity Marking; Current: ?A; Type: Дросель; Name: L?H-?A
footprint CD54 (Magnetically unshielded inductor CD54)
footprint CDR125 (Magnetically shielded inductor CDR125)
pins: 1, 2

## IRF7401
designator DA?
Power MOSFET; Name: IRF7401; Type: Силовой МОП-транзистор
footprint 8S1_N (SOIC, 8-Leads, Body 4.9x3.9mm, Pitch 1.27mm, IPC Medium Density)
pins: 1 S, 2 S, 3 S, 4 G, 5 D, 6 D, 7 D, 8 D

## IRLML6244
designator Q?
N-Channel Power MOSFET; Type: MOSFET N-канал; Id: 6.3A; Vgs: 0.5-11V; Vds: 20V; Name: IRLML6244
footprint SOT23_N (SOT23, 3-Leads, Body 2.9x1.3mm, Pitch 0.95mm, Lead Span 2.3mm, IPC Medium Density)
pins: 1 G, 2 S, 3 D

## IRLML6401
designator Q?
P-Channel Power MOSFET; Type: MOSFET P-канал; Vds: 12V; Id: 4.3A; Vgs: 0.4-0.95V; Name: IRLML6401
footprint SOT23_N (SOT23, 3-Leads, Body 2.9x1.3mm, Pitch 0.95mm, Lead Span 2.3mm, IPC Medium Density)
pins: 1 G, 2 S, 3 D

## JUMPER0
designator X?  (value not drawn)
Type: Перемычка; Name: JUMPER0
footprint R0603 (Chip Resistor, Body 1.6x0.8mm, IPC Medium Density)
footprint R0805 (Chip Resistor, Body 2.0x1.3mm, IPC Medium Density)
footprint R1206 (Chip Resistor, Body 3.2x1.6mm, IPC Medium Density)
pins: 1, 2

## JUMPER1
designator X?  (value not drawn)
Type: Перемычка; Name: JUMPER1
footprint JUMP0805 (Jumper, Body 5.0x1.3mm)
pins: 1, 2

## JUMPER-PLD-10
designator X?  (value not drawn)
Name: JUMPER-PLD-10; Type: Линейка джамперов
footprint PLD-10 (PLD-10; Pitch 2.54)
pins: 1, 2, 3, 4, 5, 6, 7, 8, 9, 10

## JUMPER-PLD-POWER-0-1-2
designator X?  (value not drawn)
Name: JUMPER-PLD-POWER-0-1-2; Type: Линейка джамперов
footprint PLD-POWER-0-1-2 (PLD power switch 0-1-2)
footprint PLD-POWER-1-2-3 (PLD power switch 1-2-3)
pins: 1, 2, 3, 4

## KEY-PAD-4
designator AKS?
Key pad; 4 keys; Name: KEY-PAD-4; Type: Блок клавишный
footprint KEY-PAD-4 (Key-pad; 4 keys)
pins: 1 KEY2, 2 NC, 3 KEY1, 4 VCC (power), 5 KEY4, 6 GND (power), 7 KEY3, 8 NC

## KPX-G1205B
designator HA?
Voltage: 5V; Name: KPX-G1205B; Type: Буззер
footprint KPX-G12xxB (MAGNETIC BUZZER – SELF DRIVE)
pins: 1, 2

## L53F3C
designator LED?  (value not drawn)
IR LED; Type: Светодиод; Color: IR; Name: L53F3C
footprint LED-5-SHORT-LEGS (Typical LED - 5mm; 2 short leads;)
pins: 1 A, 2 K

## L78L05
designator U?
Positive Voltage Regulator; Value: 5V; Name: L78L05; Type: Стабилизатор
footprint 8S1_N (SOIC, 8-Leads, Body 4.9x3.9mm, Pitch 1.27mm, IPC Medium Density)
pins: 1 OUT (power), 2 GND (power), 3 GND (power), 4 NC, 5 NC, 6 GND (power), 7 GND (power), 8 IN (power)

## L80uH-0.5A
designator L?  value 80uH  (hidden comment: L80uH-0.5A)
Inductor with Winding Polarity Marking; Current: 0.5A; Type: Дросель; Name: L80uH-0.5A
footprint CD54 (Magnetically unshielded inductor CD54)
footprint CDR125 (Magnetically shielded inductor CDR125)
pins: 1, 2

## L7805
designator U?
Positive Voltage Regulator; Value: 5V; Name: L7805; Type: Стабилизатор
footprint TO220 (TO, Thru-Hole, Vertical, Heatsink Mounted; 3 In-Line Leads; Pitch 2.54 mm)
footprint D2PAK (D2-PAK/TO-263-AB; 3 Leads (1 Cropped); Body 15.9 (inc. leads) x 10.4 mm (LxW max))
pins: 1 IN (power), 2 GND (power), 3 OUT (power)

## LED
designator LED?, comment LED-?  (value not drawn)
LED; Type: Светодиод; Color: ?; Name: LED-?
footprint LED-3 (Typical LED; 2 Leads)
pins: 1 A, 2 K

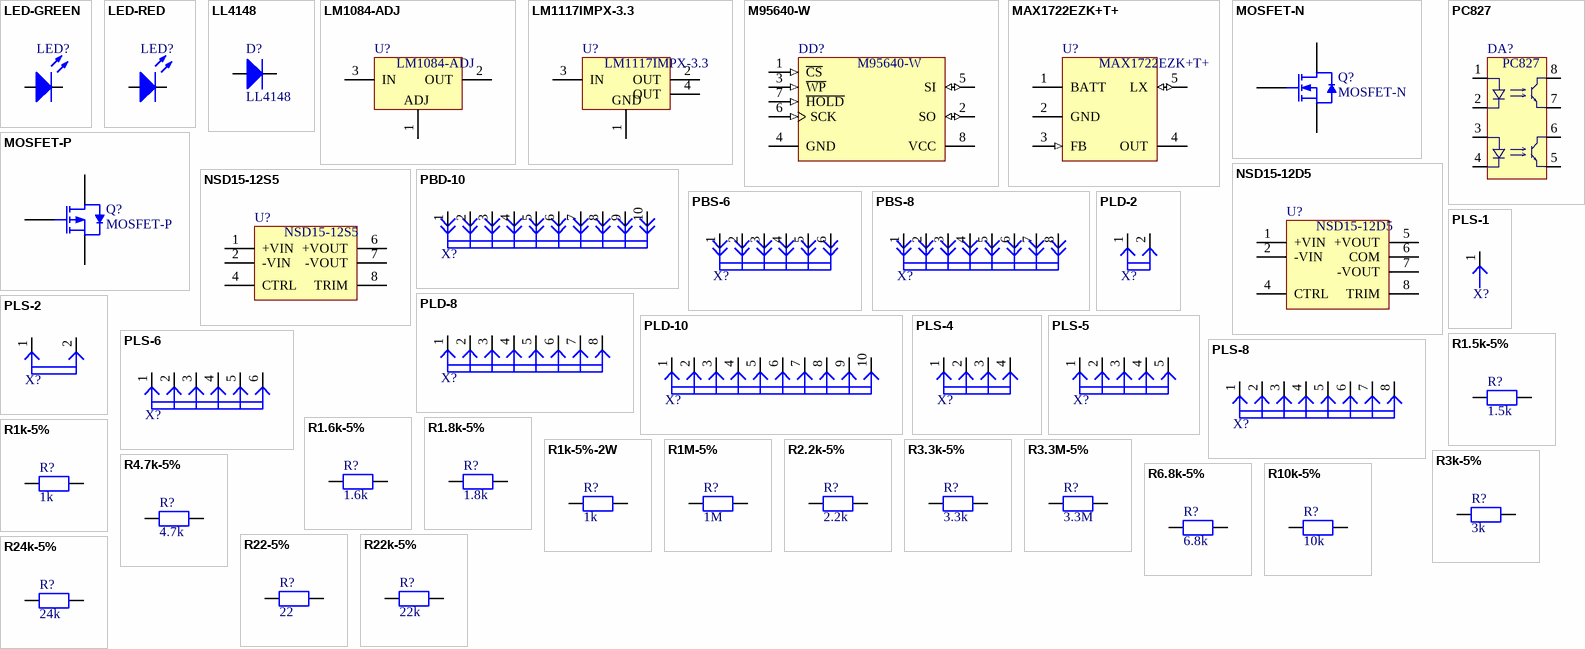
[diagram p2: symbols LED-GREEN to R24k-5%]

## LED-GREEN
designator LED?  (value not drawn)
LED green; Type: Светодиод; Color: Зеленый; Name: LED-GREEN
footprint LED-3 (Typical LED; 2 Leads)
pins: 1 A, 2 K

## LED-RED
designator LED?  (value not drawn)
LED red; Type: Светодиод; Color: Красный; Name: LED-RED
footprint LED-3 (Typical LED; 2 Leads)
pins: 1 A, 2 K

## LL4148
designator D?
High-speed Switching Diode; Type: Диод быстрый; Name: LL4148
footprint SOD80C (Metal Electrode Face (MELF) Diode; Body 3.6 x 1.5 mm (LxDia))
pins: 1 A, 2 K

## LM1084-ADJ
designator U?
5A Low Dropout Positive Regulators; Value: ADJ; Name: LM1084-ADJ; Type: Стабилизатор
footprint TO220 (TO, Thru-Hole, Vertical, Heatsink Mounted; 3 In-Line Leads; Pitch 2.54 mm)
pins: 1 ADJ, 2 OUT (power), 3 IN (power)

## LM1117IMPX-3.3
designator U?
800mA Low Dropout Linear Regulator; Value: 3.3V; Name: LM1117IMPX-3.3; Type: Стабилизатор
footprint SOT223-4N (SOT223, 4-Leads, Body 6.5x3.5mm, Pitch 2.3mm, Lead Span 7mm, IPC Medium Density)
pins: 1 GND (power), 2 OUT (power), 3 IN (power), 4 OUT (power)

## M95640-W
designator DD?
SPI Serial EEPROM 64K Memory; Name: M95640-W; Type: Память SPI EEPROM
footprint 8S1_N (SOIC, 8-Leads, Body 4.9x3.9mm, Pitch 1.27mm, IPC Medium Density)
footprint 8S12_UNIV (8-Pin Small Outline Package 1.27 mm Pitch, IPC Medium Density)
footprint 8S2_N (8-Pin Small Outline Package 1.27 mm Pitch, IPC Medium Density)
pins: 1 ~{CS} (in), 2 SO (io), 3 ~{WP} (in), 4 GND (power), 5 SI (io), 6 SCK (in), 7 ~{HOLD} (in), 8 VCC (power)

## MAX1722EZK+T+
designator U?
High efficiency step-down DC-DC convertor, 5-pin SOT23; Name: MAX1722EZK+T+; Type: DC-DC конвертор повышающий
footprint 5ST1_N (SOT23-5, 6-Leads, Body 2.9x1.6mm, Pitch 0.95mm, Lead Span 2.7mm, IPC Medium Density)
pins: 1 BATT (power), 2 GND (power), 3 FB (in), 4 OUT (power), 5 LX (io)

## MOSFET-N
designator Q?
N-Channel Power MOSFET; Type: MOSFET N-канал; Name: MOSFET-N
footprint SOT23_N (SOT23, 3-Leads, Body 2.9x1.3mm, Pitch 0.95mm, Lead Span 2.3mm, IPC Medium Density)
pins: 1 G, 2 S, 3 D

## MOSFET-P
designator Q?
P-Channel Power MOSFET; Type: MOSFET P-канал; Name: MOSFET-P
footprint SOT23_N (SOT23, 3-Leads, Body 2.9x1.3mm, Pitch 0.95mm, Lead Span 2.3mm, IPC Medium Density)
pins: 1 G, 2 S, 3 D

## NSD15-12D5
designator U?
15W DC-DC Regulated Dual Output; Value: 5V; Name: NSD15-12D5; Type: DC-DC преобразователь
footprint NSD15D (15W DC-DC Regulated Dual Output)
pins: 1 +VIN (power), 2 -VIN (power), 4 CTRL, 5 +VOUT (power), 6 COM (power), 7 -VOUT (power), 8 TRIM

## NSD15-12S5
designator U?
15W DC-DC Regulated Single Output; Value: 5V; Name: NSD15-12S5; Type: DC-DC преобразователь
footprint NSD15S (15W DC-DC Regulated Single Output)
pins: 1 +VIN (power), 2 -VIN (power), 4 CTRL, 6 +VOUT (power), 7 -VOUT (power), 8 TRIM

## PBD-10
designator X?  (value not drawn)
Name: PBD-10; Type: Линейка
footprint ZL307-2X5 (ZL307-2X5; Pitch 2.54)
pins: 1, 2, 3, 4, 5, 6, 7, 8, 9, 10

## PBS-6
designator X?  (value not drawn)
Name: PBS-6; Type: Линейка
footprint ZL307-1X6 (ZL307-1X6; Pitch 2.54)
pins: 1, 2, 3, 4, 5, 6

## PBS-8
designator X?  (value not drawn)
Name: PBS-8; Type: Линейка
footprint ZL307-1X8 (ZL307-1X8; Pitch 2.54)
pins: 1, 2, 3, 4, 5, 6, 7, 8

## PC827
designator DA?
Name: PC827; Type: Оптопара
footprint DIP-8 (DIP; 8 Leads; Row Spacing 7.62 mm; Pitch 2.54 mm)
pins: 1 A, 2 K, 3 A, 4 K, 5 E, 6 C, 7 E, 8 C

## PLD-2
designator X?  (value not drawn)
Name: PLD-2; Type: Линейка
footprint PLD-2 (PLD-2; Pitch 2.54)
pins: 1, 2

## PLD-8
designator X?  (value not drawn)
Name: PLD-8; Type: Линейка
footprint PLD-8 (PLD-8; Pitch 2.54)
pins: 1, 2, 3, 4, 5, 6, 7, 8

## PLD-10
designator X?  (value not drawn)
Name: PLD-10; Type: Линейка
footprint PLD-10 (PLD-10; Pitch 2.54)
footprint ZL201-2X5 (ZL201-2X5; Pitch 2.54)
pins: 1, 2, 3, 4, 5, 6, 7, 8, 9, 10

## PLS-1
designator X?  (value not drawn)
Name: PLS-1; Type: Линейка
footprint PLS-1 (PLS-1; Pitch 2.54)
pins: 1

## PLS-2
designator X?  (value not drawn)
Name: PLS-2; Type: Линейка
footprint PLS-2 (PLS-2; Pitch 2.54)
pins: 1, 2

## PLS-4
designator X?  (value not drawn)
Name: PLS-4; Type: Линейка
footprint PLS-4 (PLS-4; Pitch 2.54)
pins: 1, 2, 3, 4

## PLS-5
designator X?  (value not drawn)
Name: PLS-5; Type: Линейка
footprint PLS-5 (PLS-6; Pitch 2.54)
pins: 1, 2, 3, 4, 5

## PLS-6
designator X?  (value not drawn)
Name: PLS-6; Type: Линейка
footprint PLS-6 (PLS-6; Pitch 2.54)
footprint ZL201-1X6 (ZL201-1X6; Pitch 2.54)
pins: 1, 2, 3, 4, 5, 6

## PLS-8
designator X?  (value not drawn)
Name: PLS-8; Type: Линейка
footprint ZL201-1X8 (ZL201-1X8; Pitch 2.54)
pins: 1, 2, 3, 4, 5, 6, 7, 8

## R1.5k-5%
designator R?  value 1.5k  (hidden comment: R1.5k-5%)
R-1.5k-5%; Precision: 5%; Type: Резистор; Name: R1.5k-5%
footprint R0603 (Chip Resistor, Body 1.6x0.8mm, IPC Medium Density)
footprint R0805 (Chip Resistor, Body 2.0x1.3mm, IPC Medium Density)
footprint R1206 (Chip Resistor, Body 3.2x1.6mm, IPC Medium Density)
pins: 1, 2

## R1.6k-5%
designator R?  value 1.6k  (hidden comment: R1.6k-5%)
R-1.6k-5%; Precision: 5%; Type: Резистор; Name: R1.6k-5%
footprint R0603 (Chip Resistor, Body 1.6x0.8mm, IPC Medium Density)
footprint R0805 (Chip Resistor, Body 2.0x1.3mm, IPC Medium Density)
footprint R1206 (Chip Resistor, Body 3.2x1.6mm, IPC Medium Density)
pins: 1, 2

## R1.8k-5%
designator R?  value 1.8k  (hidden comment: R1.8k-5%)
R-1.8k-5%; Precision: 5%; Type: Резистор; Name: R1.8k-5%
footprint R0603 (Chip Resistor, Body 1.6x0.8mm, IPC Medium Density)
footprint R0805 (Chip Resistor, Body 2.0x1.3mm, IPC Medium Density)
footprint R1206 (Chip Resistor, Body 3.2x1.6mm, IPC Medium Density)
pins: 1, 2

## R1k-5%
designator R?  value 1k  (hidden comment: R1k-5%)
R-1k-5%; Precision: 5%; Type: Резистор; Name: R1k-5%
footprint R0603 (Chip Resistor, Body 1.6x0.8mm, IPC Medium Density)
footprint R0805 (Chip Resistor, Body 2.0x1.3mm, IPC Medium Density)
footprint R1206 (Chip Resistor, Body 3.2x1.6mm, IPC Medium Density)
pins: 1, 2

## R1k-5%-2W
designator R?  value 1k  (hidden comment: R1k-5%-2W)
R-1k-5%-2W; Precision: 5%; Power: 2W; Type: Резистор; Name: R1k-5%-2W
footprint RES20-16.5X6.5 (Resistor, Axial; Body 16.5 x 6.5 mm (LxDia. max), Lead Dia. 0.85 mm (max))
pins: 1, 2

## R1M-5%
designator R?  value 1M  (hidden comment: R1M-5%)
Precision: 5%; Type: Резистор; Name: R1M-5%
footprint R0603 (Chip Resistor, Body 1.6x0.8mm, IPC Medium Density)
footprint R0805 (Chip Resistor, Body 2.0x1.3mm, IPC Medium Density)
footprint R1206 (Chip Resistor, Body 3.2x1.6mm, IPC Medium Density)
pins: 1, 2

## R2.2k-5%
designator R?  value 2.2k  (hidden comment: R2.2k-5%)
R-2.2k-5%; Precision: 5%; Type: Резистор; Name: R2.2k-5%
footprint R0603 (Chip Resistor, Body 1.6x0.8mm, IPC Medium Density)
footprint R0805 (Chip Resistor, Body 2.0x1.3mm, IPC Medium Density)
footprint R1206 (Chip Resistor, Body 3.2x1.6mm, IPC Medium Density)
pins: 1, 2

## R3.3k-5%
designator R?  value 3.3k  (hidden comment: R3.3k-5%)
R-3.3k-5%; Precision: 5%; Type: Резистор; Name: R3.3k-5%
footprint R0603 (Chip Resistor, Body 1.6x0.8mm, IPC Medium Density)
footprint R0805 (Chip Resistor, Body 2.0x1.3mm, IPC Medium Density)
footprint R1206 (Chip Resistor, Body 3.2x1.6mm, IPC Medium Density)
pins: 1, 2

## R3.3M-5%
designator R?  value 3.3M  (hidden comment: R3.3M-5%)
Precision: 5%; Type: Резистор; Name: R3.3M-5%
footprint R0603 (Chip Resistor, Body 1.6x0.8mm, IPC Medium Density)
footprint R0805 (Chip Resistor, Body 2.0x1.3mm, IPC Medium Density)
footprint R1206 (Chip Resistor, Body 3.2x1.6mm, IPC Medium Density)
pins: 1, 2

## R3k-5%
designator R?  value 3k  (hidden comment: R3k-5%)
R-3k-5%; Precision: 5%; Type: Резистор; Name: R3k-5%
footprint R0603 (Chip Resistor, Body 1.6x0.8mm, IPC Medium Density)
footprint R0805 (Chip Resistor, Body 2.0x1.3mm, IPC Medium Density)
footprint R1206 (Chip Resistor, Body 3.2x1.6mm, IPC Medium Density)
pins: 1, 2

## R4.7k-5%
designator R?  value 4.7k  (hidden comment: R4.7k-5%)
Precision: 5%; Type: Резистор; Name: R4.7k-5%
footprint R0603 (Chip Resistor, Body 1.6x0.8mm, IPC Medium Density)
footprint R0805 (Chip Resistor, Body 2.0x1.3mm, IPC Medium Density)
footprint R1206 (Chip Resistor, Body 3.2x1.6mm, IPC Medium Density)
pins: 1, 2

## R6.8k-5%
designator R?  value 6.8k  (hidden comment: R6.8k-5%)
R-6.8k-5%; Precision: 5%; Type: Резистор; Name: R6.8k-5%
footprint R0603 (Chip Resistor, Body 1.6x0.8mm, IPC Medium Density)
footprint R0805 (Chip Resistor, Body 2.0x1.3mm, IPC Medium Density)
footprint R1206 (Chip Resistor, Body 3.2x1.6mm, IPC Medium Density)
pins: 1, 2

## R10k-5%
designator R?  value 10k  (hidden comment: R10k-5%)
R-10k-5%; Precision: 5%; Type: Резистор; Name: R10k-5%
footprint R0603 (Chip Resistor, Body 1.6x0.8mm, IPC Medium Density)
footprint R0805 (Chip Resistor, Body 2.0x1.3mm, IPC Medium Density)
footprint R1206 (Chip Resistor, Body 3.2x1.6mm, IPC Medium Density)
pins: 1, 2

## R22-5%
designator R?  value 22  (hidden comment: R22-5%)
Precision: 5%; Type: Резистор; Name: R22-5%
footprint R0603 (Chip Resistor, Body 1.6x0.8mm, IPC Medium Density)
footprint R0805 (Chip Resistor, Body 2.0x1.3mm, IPC Medium Density)
footprint R1206 (Chip Resistor, Body 3.2x1.6mm, IPC Medium Density)
pins: 1, 2

## R22k-5%
designator R?  value 22k  (hidden comment: R22k-5%)
R-22k-5%; Precision: 5%; Type: Резистор; Name: R22k-5%
footprint R0603 (Chip Resistor, Body 1.6x0.8mm, IPC Medium Density)
footprint R0805 (Chip Resistor, Body 2.0x1.3mm, IPC Medium Density)
footprint R1206 (Chip Resistor, Body 3.2x1.6mm, IPC Medium Density)
pins: 1, 2

## R24k-5%
designator R?  value 24k  (hidden comment: R24k-5%)
R-24k-5%; Precision: 5%; Type: Резистор; Name: R24k-5%
footprint R0603 (Chip Resistor, Body 1.6x0.8mm, IPC Medium Density)
footprint R0805 (Chip Resistor, Body 2.0x1.3mm, IPC Medium Density)
footprint R1206 (Chip Resistor, Body 3.2x1.6mm, IPC Medium Density)
pins: 1, 2

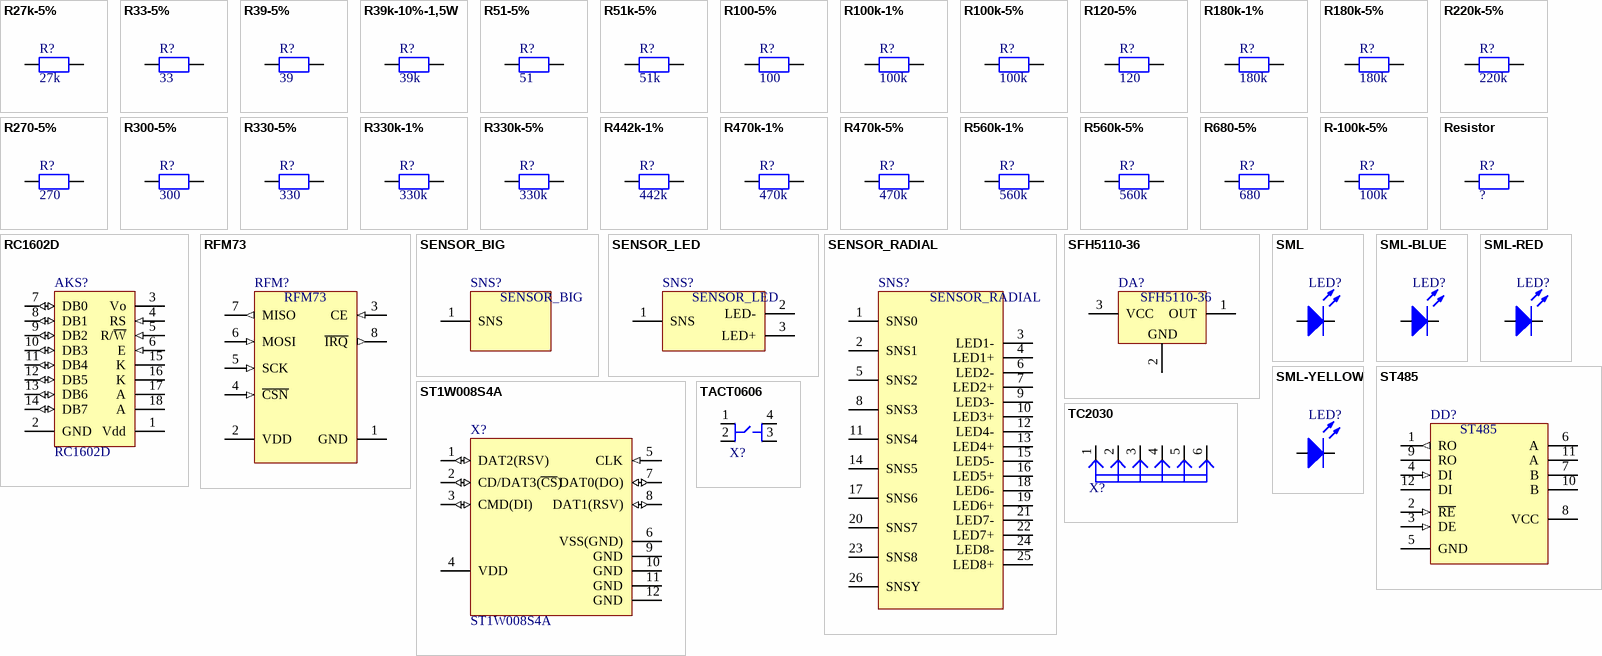
[diagram p3: symbols R27k-5% to TC2030]

## R27k-5%
designator R?  value 27k  (hidden comment: R27k-5%)
Precision: 5%; Type: Резистор; Name: R27k-5%
footprint R0603 (Chip Resistor, Body 1.6x0.8mm, IPC Medium Density)
footprint R0805 (Chip Resistor, Body 2.0x1.3mm, IPC Medium Density)
footprint R1206 (Chip Resistor, Body 3.2x1.6mm, IPC Medium Density)
pins: 1, 2

## R33-5%
designator R?  value 33  (hidden comment: R33-5%)
R-33-5%; Precision: 5%; Type: Резистор; Name: R33-5%
footprint R0603 (Chip Resistor, Body 1.6x0.8mm, IPC Medium Density)
footprint R0805 (Chip Resistor, Body 2.0x1.3mm, IPC Medium Density)
footprint R1206 (Chip Resistor, Body 3.2x1.6mm, IPC Medium Density)
pins: 1, 2

## R39-5%
designator R?  value 39  (hidden comment: R39-5%)
Precision: 5%; Type: Резистор; Name: R39-5%
footprint R0603 (Chip Resistor, Body 1.6x0.8mm, IPC Medium Density)
footprint R0805 (Chip Resistor, Body 2.0x1.3mm, IPC Medium Density)
footprint R1206 (Chip Resistor, Body 3.2x1.6mm, IPC Medium Density)
pins: 1, 2

## R39k-10%-1,5W
designator R?  value 39k  (hidden comment: R39k-10%-1,5W)
Precision: 10%; Power: 1,5; Type: Резистор; Name: R39k-10%-1,5W
footprint RES15-13.5X5 (Resistor, Axial; Body 13.5 x 5 mm (LxDia. max), Lead Dia. 0.85 mm (max))
pins: 1, 2

## R51-5%
designator R?  value 51  (hidden comment: R51-5%)
R-51-5%; Precision: 5%; Type: Резистор; Name: R51-5%
footprint R0603 (Chip Resistor, Body 1.6x0.8mm, IPC Medium Density)
footprint R0805 (Chip Resistor, Body 2.0x1.3mm, IPC Medium Density)
footprint R1206 (Chip Resistor, Body 3.2x1.6mm, IPC Medium Density)
pins: 1, 2

## R51k-5%
designator R?  value 51k  (hidden comment: R51k-5%)
R-51k-5%; Precision: 5%; Type: Резистор; Name: R51k-5%
footprint R0603 (Chip Resistor, Body 1.6x0.8mm, IPC Medium Density)
footprint R0805 (Chip Resistor, Body 2.0x1.3mm, IPC Medium Density)
footprint R1206 (Chip Resistor, Body 3.2x1.6mm, IPC Medium Density)
pins: 1, 2

## R100-5%
designator R?  value 100  (hidden comment: R100-5%)
R-100-5%; Precision: 5%; Type: Резистор; Name: R100-5%
footprint R0603 (Chip Resistor, Body 1.6x0.8mm, IPC Medium Density)
footprint R1206 (Chip Resistor, Body 3.2x1.6mm, IPC Medium Density)
footprint R0805 (Chip Resistor, Body 2.0x1.3mm, IPC Medium Density)
pins: 1, 2

## R100k-1%
designator R?  value 100k  (hidden comment: R100k-1%)
Precision: 1%; Type: Резистор; Name: R100k-1%
footprint R0603 (Chip Resistor, Body 1.6x0.8mm, IPC Medium Density)
footprint R0805 (Chip Resistor, Body 2.0x1.3mm, IPC Medium Density)
footprint R1206 (Chip Resistor, Body 3.2x1.6mm, IPC Medium Density)
pins: 1, 2

## R100k-5%
designator R?  value 100k  (hidden comment: R100k-5%)
Precision: 5%; Type: Резистор; Name: R100k-5%
footprint R0603 (Chip Resistor, Body 1.6x0.8mm, IPC Medium Density)
footprint R0805 (Chip Resistor, Body 2.0x1.3mm, IPC Medium Density)
footprint R1206 (Chip Resistor, Body 3.2x1.6mm, IPC Medium Density)
pins: 1, 2

## R120-5%
designator R?  value 120  (hidden comment: R120-5%)
R-120-5%; Precision: 5%; Type: Резистор; Name: R120-5%
footprint R0603 (Chip Resistor, Body 1.6x0.8mm, IPC Medium Density)
footprint R0805 (Chip Resistor, Body 2.0x1.3mm, IPC Medium Density)
footprint R1206 (Chip Resistor, Body 3.2x1.6mm, IPC Medium Density)
pins: 1, 2

## R180k-1%
designator R?  value 180k  (hidden comment: R180k-1%)
Precision: 1%; Type: Резистор; Name: R180k-1%
footprint R0603 (Chip Resistor, Body 1.6x0.8mm, IPC Medium Density)
footprint R0805 (Chip Resistor, Body 2.0x1.3mm, IPC Medium Density)
footprint R1206 (Chip Resistor, Body 3.2x1.6mm, IPC Medium Density)
pins: 1, 2

## R180k-5%
designator R?  value 180k  (hidden comment: R180k-5%)
Precision: 5%; Type: Резистор; Name: R180k-5%
footprint R0603 (Chip Resistor, Body 1.6x0.8mm, IPC Medium Density)
footprint R0805 (Chip Resistor, Body 2.0x1.3mm, IPC Medium Density)
footprint R1206 (Chip Resistor, Body 3.2x1.6mm, IPC Medium Density)
pins: 1, 2

## R220k-5%
designator R?  value 220k  (hidden comment: R220k-5%)
Precision: 5%; Type: Резистор; Name: R220k-5%
footprint R0603 (Chip Resistor, Body 1.6x0.8mm, IPC Medium Density)
footprint R0805 (Chip Resistor, Body 2.0x1.3mm, IPC Medium Density)
footprint R1206 (Chip Resistor, Body 3.2x1.6mm, IPC Medium Density)
pins: 1, 2

## R270-5%
designator R?  value 270  (hidden comment: R270-5%)
R-270-5%; Precision: 5%; Type: Резистор; Name: R270-5%
footprint R0603 (Chip Resistor, Body 1.6x0.8mm, IPC Medium Density)
footprint R0805 (Chip Resistor, Body 2.0x1.3mm, IPC Medium Density)
footprint R1206 (Chip Resistor, Body 3.2x1.6mm, IPC Medium Density)
pins: 1, 2

## R300-5%
designator R?  value 300  (hidden comment: R300-5%)
R-300-5%; Precision: 5%; Type: Резистор; Name: R300-5%
footprint R0603 (Chip Resistor, Body 1.6x0.8mm, IPC Medium Density)
footprint R0805 (Chip Resistor, Body 2.0x1.3mm, IPC Medium Density)
footprint R1206 (Chip Resistor, Body 3.2x1.6mm, IPC Medium Density)
pins: 1, 2

## R330-5%
designator R?  value 330  (hidden comment: R330-5%)
R-330-5%; Precision: 5%; Type: Резистор; Name: R330-5%
footprint R0603 (Chip Resistor, Body 1.6x0.8mm, IPC Medium Density)
footprint R0805 (Chip Resistor, Body 2.0x1.3mm, IPC Medium Density)
footprint R1206 (Chip Resistor, Body 3.2x1.6mm, IPC Medium Density)
pins: 1, 2

## R330k-1%
designator R?  value 330k  (hidden comment: R330k-1%)
Precision: 1%; Type: Резистор; Name: R330k-1%
footprint R0603 (Chip Resistor, Body 1.6x0.8mm, IPC Medium Density)
footprint R0805 (Chip Resistor, Body 2.0x1.3mm, IPC Medium Density)
footprint R1206 (Chip Resistor, Body 3.2x1.6mm, IPC Medium Density)
pins: 1, 2

## R330k-5%
designator R?  value 330k  (hidden comment: R330k-5%)
Precision: 5%; Type: Резистор; Name: R330k-5%
footprint R0603 (Chip Resistor, Body 1.6x0.8mm, IPC Medium Density)
footprint R0805 (Chip Resistor, Body 2.0x1.3mm, IPC Medium Density)
footprint R1206 (Chip Resistor, Body 3.2x1.6mm, IPC Medium Density)
pins: 1, 2

## R442k-1%
designator R?  value 442k  (hidden comment: R442k-1%)
Precision: 1%; Type: Резистор; Name: R442k-1%
footprint R0603 (Chip Resistor, Body 1.6x0.8mm, IPC Medium Density)
footprint R0805 (Chip Resistor, Body 2.0x1.3mm, IPC Medium Density)
footprint R1206 (Chip Resistor, Body 3.2x1.6mm, IPC Medium Density)
pins: 1, 2

## R470k-1%
designator R?  value 470k  (hidden comment: R470k-1%)
Precision: 1%; Type: Резистор; Name: R470k-1%
footprint R0603 (Chip Resistor, Body 1.6x0.8mm, IPC Medium Density)
footprint R0805 (Chip Resistor, Body 2.0x1.3mm, IPC Medium Density)
footprint R1206 (Chip Resistor, Body 3.2x1.6mm, IPC Medium Density)
pins: 1, 2

## R470k-5%
designator R?  value 470k  (hidden comment: R470k-5%)
Precision: 5%; Type: Резистор; Name: R470k-5%
footprint R0603 (Chip Resistor, Body 1.6x0.8mm, IPC Medium Density)
footprint R0805 (Chip Resistor, Body 2.0x1.3mm, IPC Medium Density)
footprint R1206 (Chip Resistor, Body 3.2x1.6mm, IPC Medium Density)
pins: 1, 2

## R560k-1%
designator R?  value 560k  (hidden comment: R560k-1%)
Precision: 1%; Type: Резистор; Name: R560k-1%
footprint R0603 (Chip Resistor, Body 1.6x0.8mm, IPC Medium Density)
footprint R0805 (Chip Resistor, Body 2.0x1.3mm, IPC Medium Density)
footprint R1206 (Chip Resistor, Body 3.2x1.6mm, IPC Medium Density)
pins: 1, 2

## R560k-5%
designator R?  value 560k  (hidden comment: R560k-5%)
Precision: 5%; Type: Резистор; Name: R560k-5%
footprint R0603 (Chip Resistor, Body 1.6x0.8mm, IPC Medium Density)
footprint R0805 (Chip Resistor, Body 2.0x1.3mm, IPC Medium Density)
footprint R1206 (Chip Resistor, Body 3.2x1.6mm, IPC Medium Density)
pins: 1, 2

## R680-5%
designator R?  value 680  (hidden comment: R680-5%)
R-680-5%; Precision: 5%; Type: Резистор; Name: R680-5%
footprint R0603 (Chip Resistor, Body 1.6x0.8mm, IPC Medium Density)
footprint R0805 (Chip Resistor, Body 2.0x1.3mm, IPC Medium Density)
footprint R1206 (Chip Resistor, Body 3.2x1.6mm, IPC Medium Density)
pins: 1, 2

## R-100k-5%
designator R?  value 100k  (hidden comment: R-100k-5%)
Precision: 5%; Type: Резистор; Name: R-100k-5%
footprint R0603 (Chip Resistor, Body 1.6x0.8mm, IPC Medium Density)
footprint R0805 (Chip Resistor, Body 2.0x1.3mm, IPC Medium Density)
footprint R1206 (Chip Resistor, Body 3.2x1.6mm, IPC Medium Density)
pins: 1, 2

## RC1602D
designator AKS?
LCD Display; Name: RC1602D; Type: LCD дисплей
footprint RC1602D (LCD Display)
pins: 1 Vdd (power), 2 GND (power), 3 Vo, 4 RS (in), 5 R/~{W} (in), 6 E (in), 7 DB0 (io), 8 DB1 (io), 9 DB2 (io), 10 DB3 (io), 11 DB4 (io), 12 DB5 (io), 13 DB6 (io), 14 DB7 (io), 15 K, 16 K, 17 A, 18 A

## Resistor
designator R?, comment R?-?%  (value not drawn)
Resistor; Precision: ?%; Type: Резистор; Name: R?-?%; Value: ?
footprint R0603 (Chip Resistor, Body 1.6x0.8mm, IPC Medium Density)
footprint R0805 (Chip Resistor, Body 2.0x1.3mm, IPC Medium Density)
footprint R1206 (Chip Resistor, Body 3.2x1.6mm, IPC Medium Density)
pins: 1, 2

## RFM73
designator RFM?
2.4GHz GFSK Transceiver; Name: RFM73; Type: Радиомодуль 2.4 ГГц
footprint RFM73 (2.4GHz GFSK Transceiver)
footprint RFM73-SML (2.4GHz GFSK Transceiver)
pins: 1 GND (power), 2 VDD (power), 3 CE (in), 4 ~{CSN} (in), 5 SCK (in), 6 MOSI (in), 7 MISO (out), 8 ~{IRQ} (out)

## SENSOR_BIG
designator SNS?
Sensor pad (big); Name: SENSOR_BIG; Type: Сенсорная площадка большая
footprint SENSOR_35MM
footprint SENSOR_38x32MM
pins: 1 SNS